# Altium footprint library OSD335-X_Devboard.PcbLib: 40 footprints (part 1 of 3)
Each footprint in its own frame and in the unit in brackets; x right, y up, seen from the top. Pads: shape width x height; smd on the part's side, far side on the other; paste and mask are expansions set on the pad; w line width, h text height; cw(c..) or ccw(c..) is an arc to the next point about the centre after c.
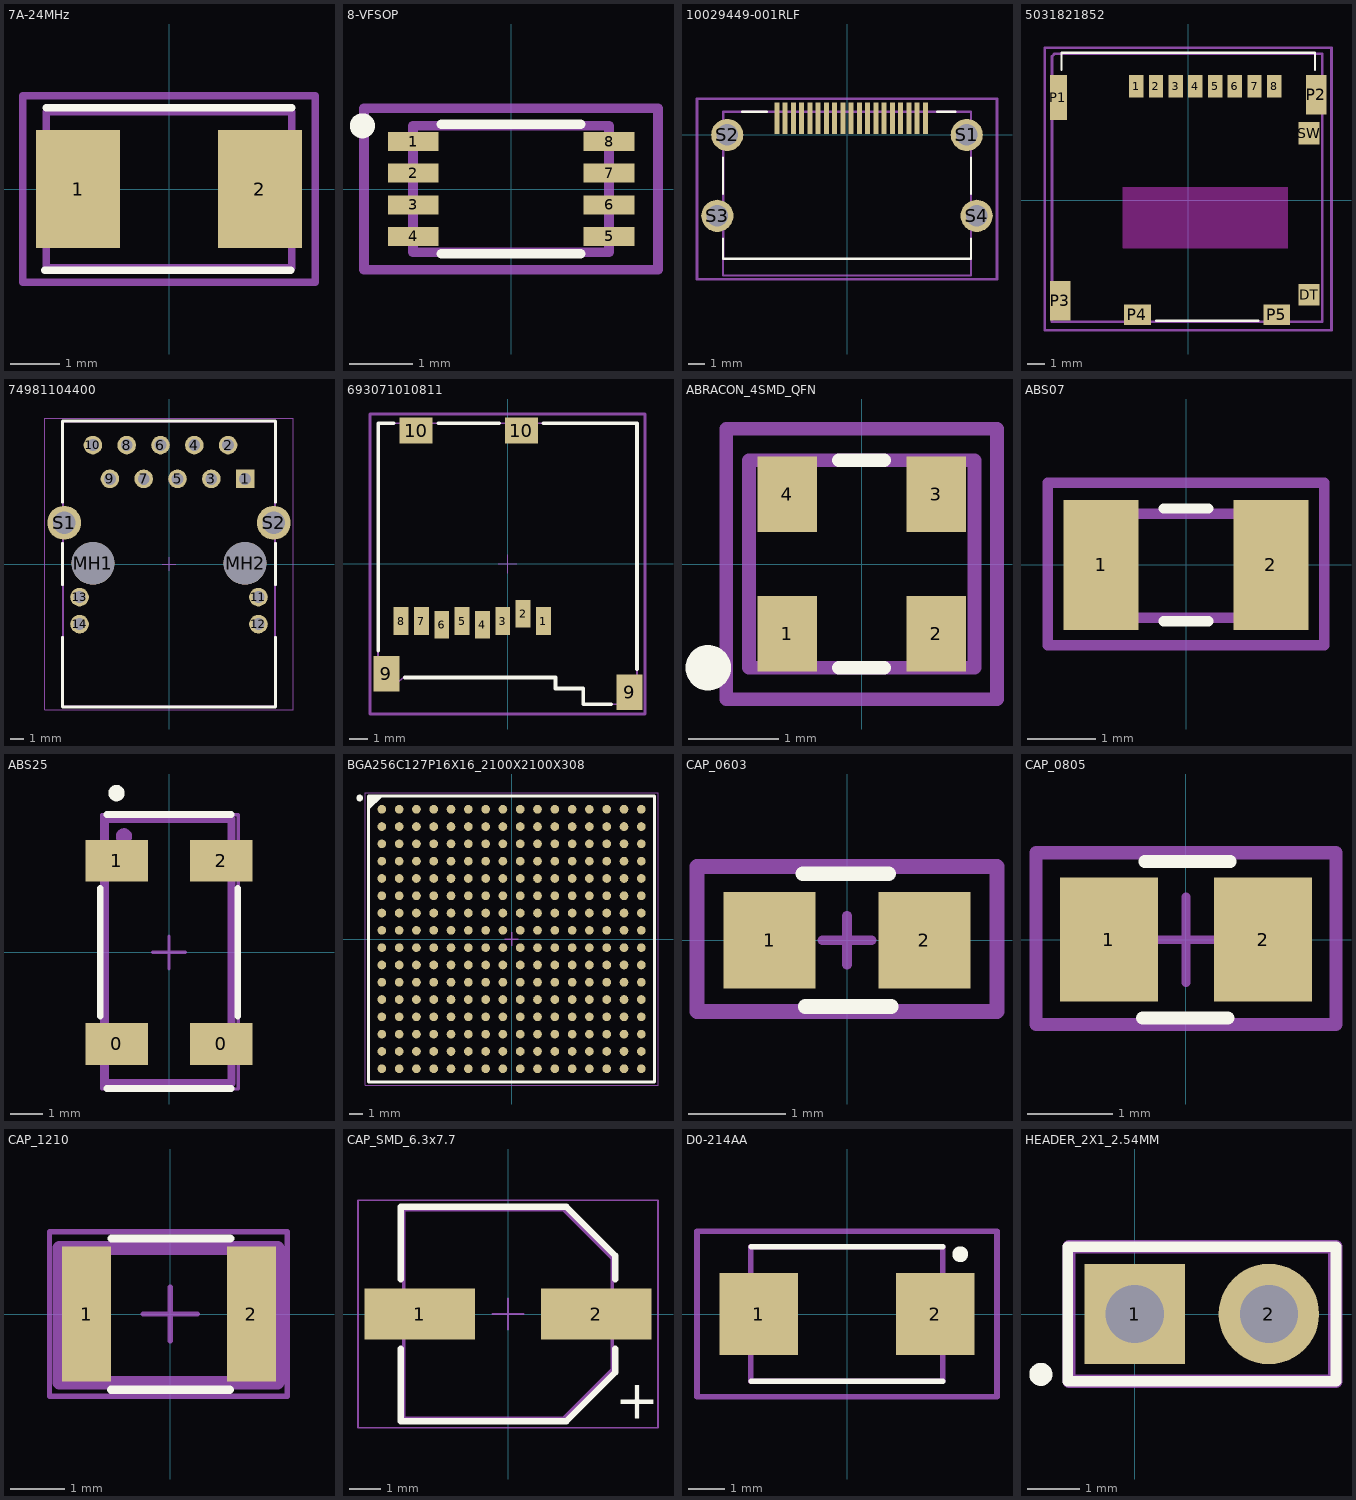
[diagram p0: the footprints below, top view; thin cyan lines are the x and y axes]

## 7A-24MHz [mm]
pads (2):
  rect 1.7x2.4 smd: 1(-1.85,0) 2(1.85,0)
Top Overlay:
  lines w0.152: -2.525,-1.65 2.475,-1.65 ; -2.5,1.65 2.5,1.65
Mechanical 15:
  lines w0.152: -2.975,-1.9 2.975,-1.9 ; -2.975,-1.875 -2.975,1.9 2.975,1.9 2.975,-1.875
Top Assembly:
  lines w0.152: -2.5,-1.6 -2.5,1.575 2.5,1.575 2.5,-1.6 -2.5,-1.6
  text "'.Designator'" at -0.6,-0.35 h0.81
3D body "7A-24.000MAAJ-T.STEP": height 1.35, standoff 0, extent -2.5,-1.6 2.5,1.6

## 8-VFSOP [mm]
pads (8):
  rect 0.8x0.3 smd mask+0.05: 1(-1.55,0.75) 2(-1.55,0.25) 3(-1.55,-0.25) 4(-1.55,-0.75) 5(1.55,-0.75) 6(1.55,-0.25) 7(1.55,0.25) 8(1.55,0.75)
Top Overlay:
  circle w0.254: c-2.35,1 r0.071
  lines w0.152: -1.1,-1.025 1.1,-1.025 ; -1.1,1.025 1.1,1.025
Mechanical 15:
  lines w0.152: -2.325,-1.275 -2.325,1.275 2.325,1.275 2.325,-1.275 -2.325,-1.275
Top Assembly:
  lines w0.152: -1.55,-1 -1.55,1 1.55,1 1.55,-1 -1.55,-1
  text "'.Designator'" at -0.525,-0.4 h0.81
3D body "SN74AUC1G74DCUR.stp": height 0.9, standoff 0, extent -1.55,-1 1.55,1

## 10029449-001RLF [mm] "HDMI HDMI™ 1.4 Receptacle Connector 19 Position Surface Mount, Right Angle; Through Hole"
pads (23):
  rect 0.3x1.9 smd: 1(4.75,1) 2(4.25,1) 3(3.75,1) 4(3.25,1) 5(2.75,1) 6(2.25,1) 7(1.75,1) 8(1.25,1) 9(0.75,1) 10(0.25,1) 11(-0.25,1) 12(-0.75,1) 13(-1.25,1) 14(-1.75,1) 15(-2.25,1) 16(-2.75,1) 17(-3.25,1) 18(-3.75,1) 19(-4.25,1)
  round 1.95 hole 1.3: S1(7.25,0) S2(-7.25,0) S3(-7.85,-4.9) S4(7.85,-4.9)
Top Overlay:
  lines w0.127: -7.5,-6.27 -7.5,-7.5 7.5,-7.5 7.5,-6.27 ; -7.5,-3.56 -7.5,-1.37 ; -6.35,1.4 -4.85,1.4 ; 5.45,1.4 6.55,1.4 ; 7.5,-3.56 7.5,-1.37
Mechanical 15:
  lines w0.152: -9.08,-8.75 -9.08,2.2 9.08,2.2 9.08,-8.75 -9.08,-8.75
Top Assembly:
  lines w0.127: -7.5,-7.5 -7.5,-8.5 7.5,-8.5 7.5,-7.5 7.5,1.4
  lines w0.152: -7.5,-7.5 -7.5,1.4 7.5,1.4
  text "'.Designator'" at -1.016,-4.14 h1.52
3D body "10029449-001lf.stp": height 5.82, standoff -2.18, extent -8.1,-8.427 8.1,0.723

## 5031821852 [mm]
pads (15):
  rect 0.8x1.24 smd: 1(-2.9,6.355) 2(-1.8,6.355) 3(-0.7,6.355) 4(0.4,6.355) 5(1.5,6.355) 6(2.6,6.355) 7(3.7,6.355) 8(4.8,6.355)
  rect 1.16x1.2 smd: DT(6.74,-5.275)
  rect 0.95x2.5 smd: P1(-7.245,5.725)
  rect 1.15x2.2 smd: P2(7.145,5.875) P3(-7.145,-5.605)
  rect 1.5x1.15 smd: P4(-2.84,-6.4) P5(4.94,-6.4)
  rect 1.16x1.25 smd: SW(6.74,3.725)
Top Overlay:
  lines w0.127: -7.07,7.28 -7.07,8.225 7.07,8.225 7.07,7.28 ; -1.8,-6.725 3.9,-6.725
Keep-Out Layer:
  region: -3.659,0.725 5.55,0.725 5.55,-2.682 -3.659,-2.682
  region: -3.659,0.725 5.55,0.725 5.55,-2.682 -3.659,-2.682
  region: -3.659,0.725 5.55,0.725 5.55,-2.682 -3.659,-2.682
Mechanical 15:
  lines w0.152: -8,-7.25 8,-7.25 8,8.5 -8,8.5 -8,-7.25
Top Assembly:
  lines w0.152: -7.6,-6.775 -7.6,8.025 -7.45,8.175 7.475,8.175 7.475,-6.775 -7.6,-6.775
  text "'.Designator'" at -0.7,-0.425 h0.91
3D body "5031821852.stp": height 1.43, standoff -0.02, extent -7.47,-6.775 7.47,8.175

## 74981104400 [mm] "10/100/1000 Base-T, THT, 1x1, Tab up, w/o shield tabs, LED L-R yellow-green/yellow-green, THR"
height 13.85
pads (18):
  rect 1.4x1.4 hole 0.89: 1(5.72,6.4)
  round 1.4 hole 0.89: 2(4.44,8.94) 3(3.18,6.4) 4(1.9,8.94) 5(0.64,6.4) 6(-0.64,8.94) 7(-1.9,6.4) 8(-3.18,8.94) 9(-4.44,6.4) 10(-5.72,8.94) 11(6.725,-2.49) 12(6.725,-4.52) 13(-6.725,-2.49) 14(-6.725,-4.52)
  round 3.2 hole 3.2 unplated: MH1(-5.715,0.05) MH2(5.715,0.05)
  round 2.55 hole 1.7: S1(-7.875,3.1) S2(7.875,3.1)
Top Overlay:
  lines w0.2: -8,-5.5 -8,-10.75 8,-10.75 8,-5.5 ; -8,-1.55 -8,1.55 ; -8,4.65 -8,10.75 8,10.75 8,4.65 ; 8,-1.55 8,1.55
Top Paste:
  region: 11.275,1.8 4.475,1.8 4.475,4.4 11.275,4.4
  region: -4.475,1.8 -11.275,1.8 -11.275,4.4 -4.475,4.4
  region: 0.47,7.84 -1.73,7.84 -1.73,10.64 0.47,10.64
  region: -2.07,7.84 -4.27,7.84 -4.27,10.64 -2.07,10.64
  region: -4.61,7.84 -6.81,7.84 -6.81,10.64 -4.61,10.64
  region: 3.01,7.84 0.81,7.84 0.81,10.64 3.01,10.64
  region: 5.55,7.84 3.35,7.84 3.35,10.64 5.55,10.64
  region: 6.83,7.5 4.63,7.5 4.63,4.7 6.83,4.7
  region: 4.29,7.5 2.09,7.5 2.09,4.7 4.29,4.7
  region: 1.75,7.5 -0.45,7.5 -0.45,4.7 1.75,4.7
  region: -0.79,7.5 -2.99,7.5 -2.99,4.7 -0.79,4.7
  region: -3.33,7.5 -5.53,7.5 -5.53,4.7 -3.33,4.7
  region: 8.625,-5.32 4.825,-5.32 4.825,-3.72 8.625,-3.72
  region: 8.625,-3.29 4.825,-3.29 4.825,-1.69 8.625,-1.69
  region: -4.825,-5.32 -8.625,-5.32 -8.625,-3.72 -4.825,-3.72
  region: -4.825,-3.29 -8.625,-3.29 -8.625,-1.69 -4.825,-1.69
Mechanical 13:
  lines w0.1: -8,-10.75 -8,10.75 8,10.75 8,-10.75 -8,-10.75
Mechanical 15:
  lines w0.05: -0.5,0 0.5,0 ; 0,-0.5 0,0.5 ; -9.35,-10.95 -9.35,10.95 9.35,10.95 9.35,-10.95 -9.35,-10.95
Top Assembly:
  lines w0.152: -7.975,-10.725 7.975,-10.725 7.975,10.725 -7.975,10.725 -7.975,-10.725
  text "'.Designator'" at -1.2,-0.85 h1.52
3D body "74981104400.stp": height 13.7, standoff -3, extent -8.06,-10.75 8.06,10.75

## 693071010811 [mm] "Micro SD Card Connector Push & Push - with Card Detection - 8 Pins"
height 1.98
pads (12):
  rect 0.8x1.5 smd: 1(1.94,-3.1) 2(0.84,-2.7) 3(-0.26,-3.1) 4(-1.36,-3.3) 5(-2.46,-3.1) 6(-3.56,-3.3) 7(-4.66,-3.1) 8(-5.76,-3.1)
  rect 1.4x1.9 smd: 9(-6.55,-5.95) 9(6.6,-6.95)
  rect 1.8x1.4 smd: 10(-4.95,7.2) 10(0.75,7.2)
Top Overlay:
  lines w0.2: -7,-4.7 -7,7.6 -6.15,7.6 ; -5.55,-6.15 2.6,-6.15 2.6,-6.75 4.1,-6.75 4.1,-7.6 5.6,-7.6 ; -3.75,7.6 -0.45,7.6 ; 1.95,7.6 7,7.6 7,-5.7
Mechanical 13:
  lines w0.1: -6.2,-6.6 -7,-6.6 -7,7.6 7,7.6 7,-7.6 4.1,-7.6 4.1,-6.75 2.6,-6.75 2.6,-6.15 -5.6,-6.15 -6.199,-6.601
Mechanical 15:
  lines w0.05: -0.5,0 0.5,0 ; 0,-0.5 0,0.5 ; -7.45,-8.1 7.45,-8.1 7.45,8.1 -7.45,8.1 -7.45,-8.1
Top Assembly:
  lines w0.152: -7.442,8.103 -7.442,-8.128 7.442,-8.128 7.442,8.103 -7.417,8.103
  text "'.Designator'" at -1.092,-0.813 h1.52
3D body "693071010811.stp": height 1.85, standoff -0.05, extent -7,-7.61 7,7.6

## ABRACON_4SMD_QFN [mil]
pads (4):
  rect 26x33 smd: 1(-32.5,-30.5) 2(32.5,-30.5) 3(32.5,30.5) 4(-32.5,30.5)
Top Overlay:
  circle w10: c-66.93,-45.28 r4.92
  lines w6: -9.84,-45.28 9.84,-45.28 ; -9.84,45.28 9.84,45.28
Mechanical 15:
  lines w6: -59.06,-59.06 -59.06,59.06 59.06,59.06 59.06,-59.06 -59.06,-59.06
Top Assembly:
  lines w6: -49.21,-45.28 49.21,-45.28 49.21,45.28 -49.21,45.28 -49.21,-45.28
  text "'.Designator'" at -21.65,-17.72 h32
3D body "ASDMB-8.000MHZ-LC-T.stp": height 39.37, standoff 0, extent -49.22,-44.69 49.21,44.68

## ABS07 [mil]
pads (2):
  rect 43x75 smd: 1(-49,0) 2(49,0)
Top Overlay:
  lines w6: -12.8,-32.48 12.8,-32.48 ; -12.8,32.48 12.8,32.48
Mechanical 15:
  lines w6: -79.72,-46.26 79.72,-46.26 79.72,47.24 -79.72,47.24 -79.72,-46.26
Top Assembly:
  lines w6: -62.99,-30.51 -31.5,-30.51 31.5,-30.51 62.99,-30.51 ; -62.99,-29.5 -62.99,29.5 62.99,29.5 62.99,-29.5
  text "'.Designator'" at -23.62,-13.78 h32
3D body "ABS07.STEP": height 35, standoff -0.01, extent -63,-29.5 63,29.5

## ABS25 [mil]
pads (4):
  rect 75x50 smd: 0(-62.5,-110) 0(62.5,-110) 1(-62.5,110) 2(62.5,110)
Top Overlay:
  circle w9.84: c-62.99,191 r4.92
  lines w7.87: -82.68,-76.77 -82.68,76.77 ; -74.8,-163.39 74.8,-163.39 ; -74.8,165.35 74.8,165.35 ; 82.68,-76.77 82.68,76.77
Mechanical 13:
  lines w3.94: -74.8,-157.48 74.8,-157.48 74.8,159.45 -74.8,159.45 -74.8,-157.48
Mechanical 15:
  lines w3.94: -19.68,0 19.69,0 ; 0,-19.68 0,19.68 ; -81,-164 -81,165 83,165 83,-164 -81,-164
Top Assembly:
  circle w9.84: c-53.99,139 r4.92
  lines w10: -77,-157 -77,160 75,160 75,-157 -77,-157
  text "'.Designator'" at 29,-42 h60
3D body "ABS25.STEP": height 102.76, standoff -1.91, extent -78.73,-157.48 78.75,157.48

## BGA256C127P16X16_2100X2100X308 [mm] "BGA, 256-Leads, Body 21.00x21.00mmx3.08mm, Pitch 1.27mm"
height 3.08
pads (256):
  round 0.64 smd: A1(-9.525,9.525) A2(-8.255,9.525) A3(-6.985,9.525) A4(-5.715,9.525) A5(-4.445,9.525) A6(-3.175,9.525) A7(-1.905,9.525) A8(-0.635,9.525) A9(0.635,9.525) A10(1.905,9.525) A11(3.175,9.525) A12(4.445,9.525) A13(5.715,9.525) A14(6.985,9.525) A15(8.255,9.525) A16(9.525,9.525) B1(-9.525,8.255) B2(-8.255,8.255) B3(-6.985,8.255) B4(-5.715,8.255) B5(-4.445,8.255) B6(-3.175,8.255) B7(-1.905,8.255) B8(-0.635,8.255) B9(0.635,8.255) B10(1.905,8.255) B11(3.175,8.255) B12(4.445,8.255) B13(5.715,8.255) B14(6.985,8.255) B15(8.255,8.255) B16(9.525,8.255) C1(-9.525,6.985) C2(-8.255,6.985) C3(-6.985,6.985) C4(-5.715,6.985) C5(-4.445,6.985) C6(-3.175,6.985) C7(-1.905,6.985) C8(-0.635,6.985) C9(0.635,6.985) C10(1.905,6.985) C11(3.175,6.985) C12(4.445,6.985) C13(5.715,6.985) C14(6.985,6.985) C15(8.255,6.985) C16(9.525,6.985) D1(-9.525,5.715) D2(-8.255,5.715) D3(-6.985,5.715) D4(-5.715,5.715) D5(-4.445,5.715) D6(-3.175,5.715) D7(-1.905,5.715) D8(-0.635,5.715) D9(0.635,5.715) D10(1.905,5.715) D11(3.175,5.715) D12(4.445,5.715) D13(5.715,5.715) D14(6.985,5.715) D15(8.255,5.715) D16(9.525,5.715) E1(-9.525,4.445) E2(-8.255,4.445) E3(-6.985,4.445) E4(-5.715,4.445) E5(-4.445,4.445) E6(-3.175,4.445) E7(-1.905,4.445) E8(-0.635,4.445) E9(0.635,4.445) E10(1.905,4.445) E11(3.175,4.445) E12(4.445,4.445) E13(5.715,4.445) E14(6.985,4.445) E15(8.255,4.445) E16(9.525,4.445) F1(-9.525,3.175) F2(-8.255,3.175) F3(-6.985,3.175) F4(-5.715,3.175) F5(-4.445,3.175) F6(-3.175,3.175) F7(-1.905,3.175) F8(-0.635,3.175) F9(0.635,3.175) F10(1.905,3.175) F11(3.175,3.175) F12(4.445,3.175) F13(5.715,3.175) F14(6.985,3.175) F15(8.255,3.175) F16(9.525,3.175) G1(-9.525,1.905) G2(-8.255,1.905) G3(-6.985,1.905) G4(-5.715,1.905) G5(-4.445,1.905) G6(-3.175,1.905) G7(-1.905,1.905) G8(-0.635,1.905) G9(0.635,1.905) G10(1.905,1.905) G11(3.175,1.905) G12(4.445,1.905) G13(5.715,1.905) G14(6.985,1.905) G15(8.255,1.905) G16(9.525,1.905) H1(-9.525,0.635) H2(-8.255,0.635) H3(-6.985,0.635) H4(-5.715,0.635) H5(-4.445,0.635) H6(-3.175,0.635) H7(-1.905,0.635) H8(-0.635,0.635) H9(0.635,0.635) H10(1.905,0.635) H11(3.175,0.635) H12(4.445,0.635) H13(5.715,0.635) H14(6.985,0.635) H15(8.255,0.635) H16(9.525,0.635) J1(-9.525,-0.635) J2(-8.255,-0.635) J3(-6.985,-0.635) J4(-5.715,-0.635) J5(-4.445,-0.635) J6(-3.175,-0.635) J7(-1.905,-0.635) J8(-0.635,-0.635) J9(0.635,-0.635) J10(1.905,-0.635) J11(3.175,-0.635) J12(4.445,-0.635) J13(5.715,-0.635) J14(6.985,-0.635) J15(8.255,-0.635) J16(9.525,-0.635) K1(-9.525,-1.905) K2(-8.255,-1.905) K3(-6.985,-1.905) K4(-5.715,-1.905) K5(-4.445,-1.905) K6(-3.175,-1.905) K7(-1.905,-1.905) K8(-0.635,-1.905) K9(0.635,-1.905) K10(1.905,-1.905) K11(3.175,-1.905) K12(4.445,-1.905) K13(5.715,-1.905) K14(6.985,-1.905) K15(8.255,-1.905) K16(9.525,-1.905) L1(-9.525,-3.175) L2(-8.255,-3.175) L3(-6.985,-3.175) L4(-5.715,-3.175) L5(-4.445,-3.175) L6(-3.175,-3.175) L7(-1.905,-3.175) L8(-0.635,-3.175) L9(0.635,-3.175) L10(1.905,-3.175) L11(3.175,-3.175) L12(4.445,-3.175) L13(5.715,-3.175) L14(6.985,-3.175) L15(8.255,-3.175) L16(9.525,-3.175) M1(-9.525,-4.445) M2(-8.255,-4.445) M3(-6.985,-4.445) M4(-5.715,-4.445) M5(-4.445,-4.445) M6(-3.175,-4.445) M7(-1.905,-4.445) M8(-0.635,-4.445) M9(0.635,-4.445) M10(1.905,-4.445) M11(3.175,-4.445) M12(4.445,-4.445) M13(5.715,-4.445) M14(6.985,-4.445) M15(8.255,-4.445) M16(9.525,-4.445) N1(-9.525,-5.715) N2(-8.255,-5.715) N3(-6.985,-5.715) N4(-5.715,-5.715) N5(-4.445,-5.715) N6(-3.175,-5.715) N7(-1.905,-5.715) N8(-0.635,-5.715) N9(0.635,-5.715) N10(1.905,-5.715) N11(3.175,-5.715) N12(4.445,-5.715) N13(5.715,-5.715) N14(6.985,-5.715) N15(8.255,-5.715) N16(9.525,-5.715) P1(-9.525,-6.985) P2(-8.255,-6.985) P3(-6.985,-6.985) P4(-5.715,-6.985) P5(-4.445,-6.985) P6(-3.175,-6.985) P7(-1.905,-6.985) P8(-0.635,-6.985) P9(0.635,-6.985) P10(1.905,-6.985) P11(3.175,-6.985) P12(4.445,-6.985) P13(5.715,-6.985) P14(6.985,-6.985) P15(8.255,-6.985) P16(9.525,-6.985) R1(-9.525,-8.255) R2(-8.255,-8.255) R3(-6.985,-8.255) R4(-5.715,-8.255) R5(-4.445,-8.255) R6(-3.175,-8.255) R7(-1.905,-8.255) R8(-0.635,-8.255) R9(0.635,-8.255) R10(1.905,-8.255) R11(3.175,-8.255) R12(4.445,-8.255) R13(5.715,-8.255) R14(6.985,-8.255) R15(8.255,-8.255) R16(9.525,-8.255) T1(-9.525,-9.525) T2(-8.255,-9.525) T3(-6.985,-9.525) T4(-5.715,-9.525) T5(-4.445,-9.525) T6(-3.175,-9.525) T7(-1.905,-9.525) T8(-0.635,-9.525) T9(0.635,-9.525) T10(1.905,-9.525) T11(3.175,-9.525) T12(4.445,-9.525) T13(5.715,-9.525) T14(6.985,-9.525) T15(8.255,-9.525) T16(9.525,-9.525)
Top Overlay:
  circle w0.25: c-11.15,10.35 r0.125
  region: -9.568,10.5 -10.5,9.568 -10.5,10.5
  lines w0.2: -10.5,9.568 -9.568,10.5 ; -10.5,-10.5 10.5,-10.5 10.5,10.5 -10.5,10.5 -10.5,-10.5
Mechanical 13:
  lines w0.1: -10.5,-10.5 10.5,-10.5 10.5,10.5 -10.5,10.5 -10.5,-10.5
Mechanical 15:
  lines w0.05: -10.75,-10.75 10.75,-10.75 10.75,10.75 -10.75,10.75 -10.75,-10.75
  lines w0.1: -0.5,0 0.5,0 ; 0,-0.5 0,0.5
3D body "BGA256C127P16X16_2100X2100X308.step": height 3.08, standoff 0, extent -10.5,-10.5 10.5,10.5

## CAP_0603 [mm]
pads (2):
  rect 0.95x1 smd: 1(-0.8,0) 2(0.8,0)
Top Overlay:
  lines w0.152: -0.457,0.686 0.432,0.686 ; -0.432,-0.686 0.457,-0.686
Mechanical 15:
  lines w0.1: -1.55,-0.737 -1.549,0.762 1.549,0.762 1.55,-0.737 ; -1.549,-0.737 1.549,-0.737 ; -0.254,0 0,0 ; 0,-0.254 0,0 ; 0,0.254 0,0 ; 0.254,0 0,0
Top Assembly:
  lines w0.152: -1.549,-0.737 1.549,-0.737 1.549,0.762 -1.549,0.762 -1.549,-0.737
  text "'.Designator'" at -0.787,-0.305 h0.76
3D body "C0603.stp": height 0.9, standoff 0, extent -0.8,-0.4 0.8,0.4

## CAP_0805 [mm]
pads (2):
  rect 1.15x1.45 smd: 1(-0.9,0) 2(0.9,0)
Top Overlay:
  lines w0.15: -0.483,0.914 0.517,0.914
  lines w0.152: -0.508,-0.914 0.492,-0.914
Mechanical 15:
  lines w0.1: -1.753,-1 1.753,-1 ; -1.753,-0.991 -1.75,0.991 ; -1.753,1.016 1.753,1 ; -0.5,0 0.5,0 ; 0,-0.5 0,0.5 ; 1.75,-0.991 1.753,0.991
Top Assembly:
  lines w0.152: -1.753,-0.991 1.753,-0.991 1.753,1.016 -1.753,1.016 -1.753,-0.991
  text "'.Designator'" at -0.787,-0.305 h0.76
3D body "C0805.step": height 1.26, standoff -0.01, extent -1.09,-0.637 1.09,0.638

## CAP_1210 [mm]
pads (2):
  rect 0.9x2.5 smd: 1(-1.55,0) 2(1.5,0)
Top Overlay:
  lines w0.15: -1.092,1.4 1.108,1.4
  lines w0.152: -1.1,-1.4 1.1,-1.4
Mechanical 15:
  lines w0.1: -0.5,0 0.5,0 ; 0,-0.5 0,0.5 ; -2.235,-1.524 -2.235,1.524 2.159,1.524 2.159,-1.524 -2.235,-1.524
Top Assembly:
  lines w0.254: -2.057,-1.27 -2.057,1.219 1.981,1.219 1.981,-1.27 -2.057,-1.27
  text "'.Designator'" at -0.787,-0.305 h0.76
3D body "C1210.step": height 2.51, standoff -0.01, extent -1.75,-1.262 1.75,1.263

## CAP_SMD_6.3x7.7 [mm] "Aluminium Electrolytic V-Chip SMT Capacitors, 6.3x7.7mm"
height 7.7
pads (2):
  rect 3.5x1.6 smd: 1(-2.8,0) 2(2.8,0)
Top Overlay:
  lines w0.2: -3.4,-1.1 -3.4,-3.4 1.85,-3.4 3.4,-1.85 3.4,-1.1 ; -3.4,1.1 -3.4,3.4 1.85,3.4 3.4,1.85 3.4,1.1
  text "+" at 3.4,-3.325 h1.22
Mechanical 15:
  lines w0.05: -0.5,0 0.5,0 ; 0,-0.5 0,0.5 ; -4.75,-3.6 -4.75,3.6 4.75,3.6 4.75,-3.6 -4.75,-3.6
Top Assembly:
  lines w0.1: -3.3,-3.3 1.75,-3.3 3.3,-1.75 3.3,1.75 1.75,3.3 -3.3,3.3 -3.3,-3.3
  text "'.Designator'" at -1.05,-0.625 h1.52
3D body "6.3x7.7x2.2.stp": height 7.7, standoff 0, extent -3.65,-3.3 3.65,3.3

## D0-214AA [mil]
pads (2):
  rect 85x89 smd: 1(-96,0) 2(96,0)
Top Overlay:
  circle w10: c123,65 r3.61
  lines w6: -104,-73 104,-73 ; -104,73 104,73
Mechanical 15:
  lines w6: -163,-90 163,-90 163,90 -163,90 -163,-90
Top Assembly:
  lines w6: -104.35,-72.84 104.31,-72.84 104.31,72.83 -104.35,72.83 -104.35,-72.84
  text "'.Designator'" at -39,-28 h60
3D body "DO-214AA_SMB.step": height 87.65, standoff -0.97, extent -104.35,-72.84 104.31,72.83

## HEADER_2X1_2.54MM [mm]
pads (2):
  rect 1.9x1.9 hole 1.1: 1(0,0)
  round 1.9 hole 1.1: 2(2.54,0)
Top Overlay:
  circle w0.254: c-1.778,-1.143 r0.092
  lines w0.2: -1.27,-1.27 3.81,-1.27 3.81,1.27 -1.27,1.27 -1.27,-1.27
Mechanical 15:
  lines w0.254: -1.245,-1.27 3.81,-1.27 3.81,1.27 -1.245,1.27 -1.245,-1.27
Top Assembly:
  lines w0.254: -1.245,-1.27 -1.245,1.27 3.785,1.27 3.785,-1.27 -1.245,-1.27
  text "'.Designator'" at 0.102,-0.686 h1.52
3D body "61300211121.stp": height 8.54, standoff -3, extent -1.27,-1.27 3.81,1.27